# Altium schematic symbol library IC_Microchip_MCP3008I-P_eec.SchLib: 1 symbol
Pins are listed as number, name and electrical type; pins without a type are passive.

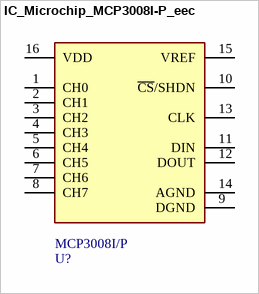
[diagram p0: symbol IC_Microchip_MCP3008I-P_eec]

## IC_Microchip_MCP3008I-P_eec
designator U?  Part Number: MCP3008I/P
IC ADC 10BIT 2.7V 8CH SPI 16DIP; Manufacturer: Microchip; Input Type: Pseudo-Differential, Single Ended; Sampling Rate (Per Second): 200k; Configuration: MUX-S/H-ADC; helpURL: https://upverter.com/upn/revision/d4fed12505406db9/; ComponentLink2Description: Datasheet; Temperature: -40°C to +85°C; Package: PDIP16; Supplier 2: Mouser; Supplier 1: Digi-Key; ComponentLink1URL: https://upverter.com/upn/revision/d4fed12505406db9/; Supplier Part Number 2: 579-MCP3008-I/P; Supplier Part Number 1: MCP3008-I/P-ND; ComponentLink1Description: Upverter; ComponentLink2URL: http://ww1.microchip.com/downloads/en/DeviceDoc/21295d.pdf; RoHS: TRUE; Mouser Part Number: 579-MCP3008-I/P; Ipc Land Pattern Name: DIP787W46P254L1918H533Q16; Temperature Range High: +85°C; Digikey Description: IC ADC 10BIT 2.7V 8CH SPI 16DIP; Digikey Part Number: MCP3008-I/P-ND; Lead Free: yes; Temperature Range Low: -40°C
footprint Microchip_MCP3008I-P_0
pins: 1 CH0, 2 CH1, 3 CH2, 4 CH3, 5 CH4, 6 CH5, 7 CH6, 8 CH7, 9 DGND, 10 ~{CS}/SHDN, 11 DIN, 12 DOUT, 13 CLK, 14 AGND, 15 VREF, 16 VDD